# EAGLE library part HA9P5320-5Z (library Intersil_By_element14_Batch_1)
1 Microsecond Precision Sample and Hold Amplifier
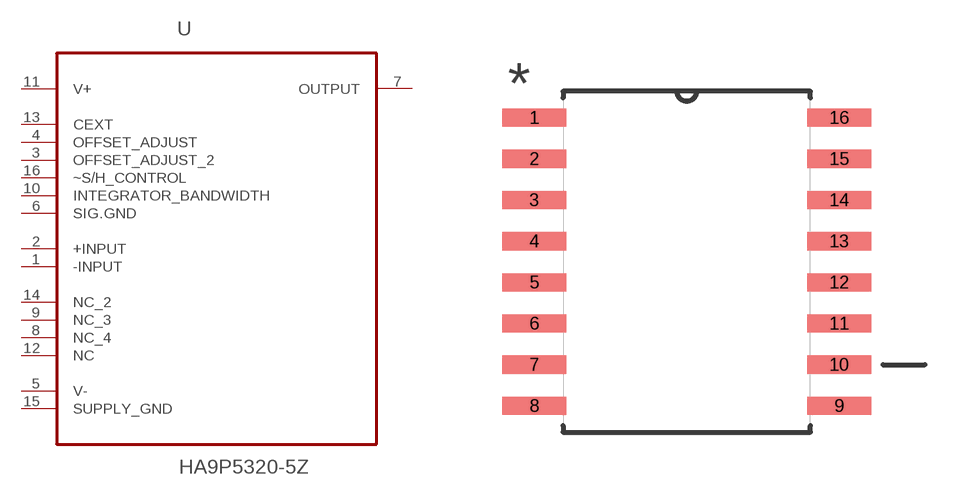
[diagram p105: symbol with the pads of SOIC127P1032X265-16N; footprint SOIC127P1032X265-16N]

Designator prefix U

## HA9P5320-5Z (MPN: HA9P5320-5Z; OC_FARNELL: 1562033; OC_NEWARK: 79K6756; PACKAGE: SOIC-16; SUPPLIER: INTERSIL)  [SOIC127P1032X265-16N]
1  -INPUT  in
2  +INPUT  in
3  OFFSET_ADJUST_2  in
4  OFFSET_ADJUST  in
5  V-  in
6  SIG.GND  in
7  OUTPUT  out
8  NC_4  nc
9  NC_3  nc
10  INTEGRATOR_BANDWIDTH  out
11  V+  in
12  NC  nc
13  CEXT  in
14  NC_2  nc
15  SUPPLY_GND  in
16  ~S/H_CONTROL  in

## Footprint SOIC127P1032X265-16N (pad centres in mm)
smd 1.981 x 0.559: 1 -4.699,4.445; 2 -4.699,3.175; 3 -4.699,1.905; 4 -4.699,0.635; 5 -4.699,-0.635; 6 -4.699,-1.905; 7 -4.699,-3.175; 8 -4.699,-4.445; 9 4.699,-4.445; 10 4.699,-3.175; 11 4.699,-1.905; 12 4.699,-0.635; 13 4.699,0.635; 14 4.699,1.905; 15 4.699,3.175; 16 4.699,4.445